# Altium footprint library 653112124022.PcbLib: 1 footprints
Each footprint in its own frame and in the unit in brackets; x right, y up, seen from the top. Pads: shape width x height; smd on the part's side, far side on the other; paste and mask are expansions set on the pad; w line width, h text height; cw(c..) or ccw(c..) is an arc to the next point about the centre after c.
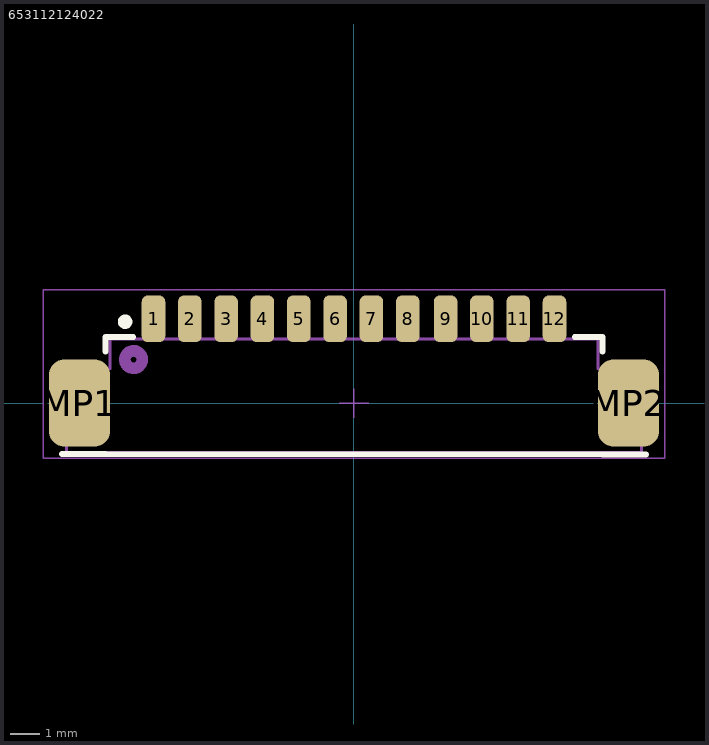
[diagram p0: the footprint, top view; thin cyan lines are the x and y axes]

## 653112124022 [mm]
pads (14):
  rrect50% 0.81x1.6 smd: 1(-6.9,2.9) 2(-5.65,2.9) 3(-4.4,2.9) 4(-3.15,2.9) 5(-1.9,2.9) 6(-0.65,2.9) 7(0.6,2.9) 8(1.85,2.9) 9(3.15,2.9) 10(4.4,2.9) 11(5.65,2.9) 12(6.9,2.9)
  rrect50% 2.1x3 smd: MP1(-9.45,0) MP2(9.45,0)
Top Overlay:
  circle w0.25: c-7.875,2.8 r0.125
  lines w0.2: -10.05,-1.75 -8.55,-1.75 8.55,-1.775 10.05,-1.775 ; -8.55,1.775 -8.55,2.275 -7.6,2.275 ; 7.6,2.275 8.55,2.275 8.55,1.775
Top Assembly:
  circle w0.4: c-7.585,1.497 r0.3
  lines w0.1: -9.9,-1.68 -9.9,1.18 -8.4,1.18 -8.4,2.2 8.4,2.2 8.4,1.18 9.9,1.18 9.9,-1.68 ; -9.88,-1.7 -8.4,-1.7 8.4,-1.7 9.88,-1.7
  text "'.Designator'" at -3.1,-0.2 h0.5
Top Courtyard:
  lines w0.05: -0.5,0 0.5,0 ; 0,-0.5 0,0.5 ; -10.7,-1.9 -10.7,3.9 10.7,3.9 10.7,-1.9 -10.7,-1.9
3D body "653112124022 (rev1).stp": height 4.75, standoff 0, extent -9.975,-1.05 9.975,3.155